# Altium schematic symbol library TH Resistors.SchLib: 8 symbols
Pins are listed as number, name and electrical type; pins without a type are passive.

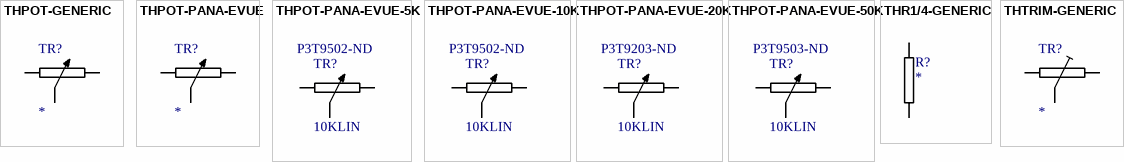
[diagram p0: symbols THPOT-GENERIC to THTRIM-GENERIC]

## THPOT-GENERIC
designator TR?
Adjustable resistor
pins: 1, 2, W

## THPOT-PANA-EVUE
designator TR?
Adjustable resistor
footprint pot-pana-evue
pins: 1, 2, W

## THPOT-PANA-EVUE-5K
designator TR?, comment 10KLIN  Supplier Part Number 1: P3T9502-ND
Adjustable resistor; Supplier 1: Digi-Key
footprint pot-pana-evue
pins: 1, 2, W

## THPOT-PANA-EVUE-10K
designator TR?, comment 10KLIN  Supplier Part Number 1: P3T9502-ND
Adjustable resistor; Supplier 1: Digi-Key
footprint pot-pana-evue
pins: 1, 2, W

## THPOT-PANA-EVUE-20K
designator TR?, comment 10KLIN  Supplier Part Number 1: P3T9203-ND
Adjustable resistor; Supplier 1: Digi-Key
footprint pot-pana-evue
pins: 1, 2, W

## THPOT-PANA-EVUE-50K
designator TR?, comment 10KLIN  Supplier Part Number 1: P3T9503-ND
Adjustable resistor; Supplier 1: Digi-Key
footprint pot-pana-evue
pins: 1, 2, W

## THR1/4-GENERIC
designator R?
GENERIC THROUGH HOLE 1/4 WATT RESISTOR
footprint THR1/4-GENERIC
pins: 1, 2

## THTRIM-GENERIC
designator TR?
TRIMMABLE RESISTOR
footprint TRIMMER-MT
pins: 1, 2, W